# Altium footprint library rlc.PcbLib: 4 footprints
Each footprint in its own frame and in the unit in brackets; x right, y up, seen from the top. Pads: shape width x height; smd on the part's side, far side on the other; paste and mask are expansions set on the pad; w line width, h text height; cw(c..) or ccw(c..) is an arc to the next point about the centre after c.
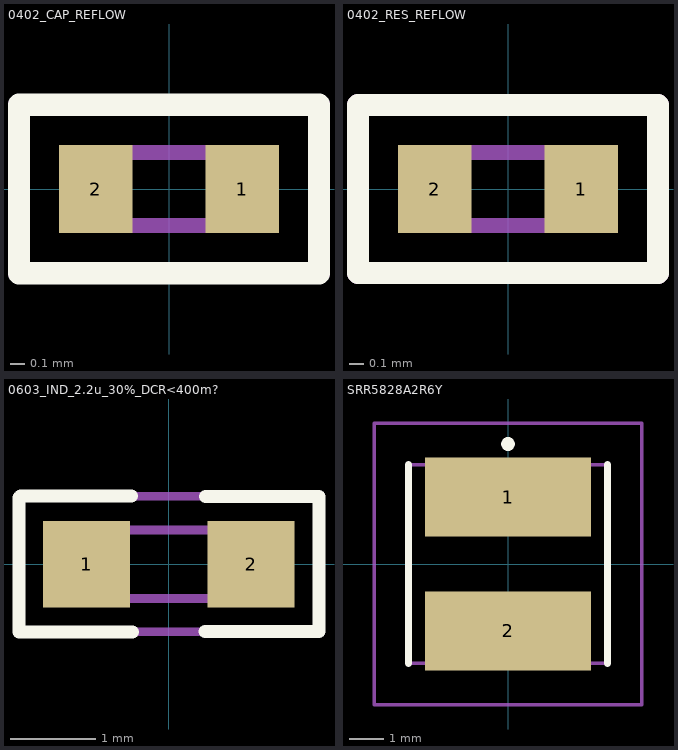
[diagram p0: the footprints below, top view; thin cyan lines are the x and y axes]

## 0402_CAP_REFLOW [mm]
pads (2):
  rect 0.5x0.6 smd paste-0.03 mask+0.1: 1(0.5,0) 2(-0.5,0)
Top Overlay:
  lines w0.152: -1.025,-0.575 1.025,-0.575 1.025,0.575 -1.025,0.575 -1.025,-0.575
Top Component Outline:
  lines w0.102: -0.5,-0.25 -0.5,0.25 0.5,0.25 0.5,-0.25 -0.5,-0.25
Top Assembly:
  lines w0.15: -1.025,-0.575 1.025,-0.575 1.025,0.575 -1.025,0.575 -1.025,-0.575
  text ".Designator" at -0.9,-0.2 h0.75
3D body "User Library-cap_0402.step": height 0.5, standoff 0, extent -0.5,-0.25 0.5,0.25

## 0402_RES_REFLOW [mm]
pads (2):
  rect 0.5x0.6 smd paste-0.03 mask+0.1: 1(0.5,0) 2(-0.5,0)
Top Overlay:
  lines w0.15: -1.025,-0.575 1.025,-0.575 1.025,0.575 -1.025,0.575 -1.025,-0.575
Top Component Outline:
  lines w0.102: -0.5,-0.25 0.5,-0.25 0.5,0.25 -0.5,0.25 -0.5,-0.25
Top Assembly:
  lines w0.15: -1.025,-0.575 1.025,-0.575 1.025,0.575 -1.025,0.575 -1.025,-0.575
  text ".Designator" at -0.889,-0.254 h0.75
3D body "User Library-res0402-1.step": height 0.3, standoff 0, extent -0.5,-0.25 0.5,0.25

## 0603_IND_2.2u_30%_DCR<400m? [mil]
pads (2):
  rect 40x40 smd: 1(-37.89,0) 2(37.89,0)
Top Overlay:
  lines w6: -68.99,-31.03 -68.99,30.75 ; -68.9,-31.13 -16.76,-31.13 ; -68.36,31.38 -17.13,31.38 ; 16.59,-30.98 69.1,-30.98 69.1,31.22 16.97,31.22
Top Component Outline:
  lines w4: -31.49,-15.74 31.5,-15.74 31.5,15.75 -31.49,15.75 -31.49,-15.74
Top Assembly:
  lines w3.94: -68.9,-31.13 69.1,-31.13 69.1,31.38 -68.9,31.38 -68.9,-31.13
  text ".Designator" at -59.06,-8.02 h39.37
3D body "User Library-INDC1608X___.step": height 39.37, standoff 0, extent -31.49,-15.75 31.5,15.75

## SRR5828A2R6Y [mm]
pads (2):
  rect 4.85x2.3 smd: 1(0,1.95) 2(0,-1.95)
Top Overlay:
  lines w0.2: -2.9,-2.9 -2.9,2.9 ; 2.9,-2.9 2.9,2.9 ; -0.1,3.5 cw(c0,3.5) 0.1,3.5 cw(c0,3.5) -0.1,3.5
Top Component Outline:
  lines w0.1: -2.9,-2.9 2.9,-2.9 2.9,2.9 -2.9,2.9 -2.9,-2.9
Top Assembly:
  lines w0.1: -3.9,-4.1 3.9,-4.1 3.9,4.1 -3.9,4.1 -3.9,-4.1